# EAGLE library part MCP4361 (library HomeMade)
Quad Resistor Network • Potentiometer configuration • 8-bit: 256 Resistors (257 Taps) • RAB Resistances 5kΩ
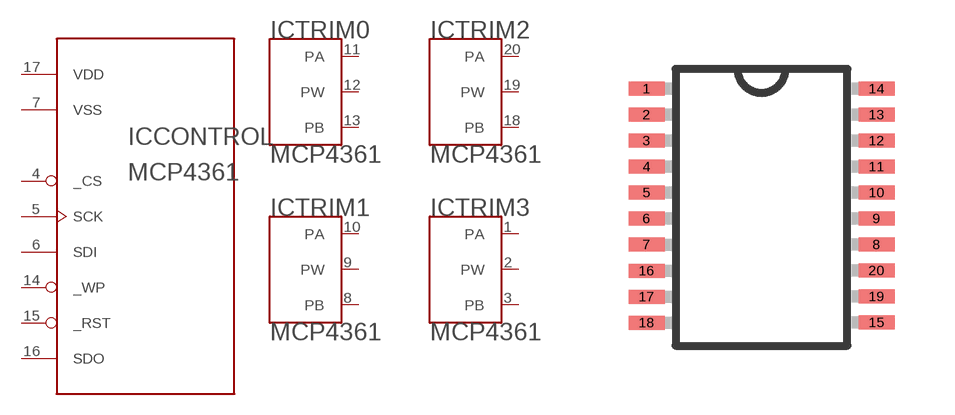
[diagram p9: symbol with the pads of TSSOP20; footprint TSSOP20]

Designator prefix IC; gates CONTROL=MCP4361_DIGITAL TRIM0=MCP4361_POT TRIM1=MCP4361_POT TRIM2=MCP4361_POT TRIM3=MCP4361_POT

## MCP4361  [TSSOP20]
1  TRIM3:PA  pas
2  TRIM3:PW  pas
3  TRIM3:PB  pas
4  CONTROL:_CS  in
5  CONTROL:SCK  in
6  CONTROL:SDI  in
7  CONTROL:VSS  pwr
8  TRIM1:PB  pas
9  TRIM1:PW  pas
10  TRIM1:PA  pas
11  TRIM0:PA  pas
12  TRIM0:PW  pas
13  TRIM0:PB  pas
14  CONTROL:_WP  in
15  CONTROL:_RST  in
16  CONTROL:SDO  out
17  CONTROL:VDD  pwr
18  TRIM2:PB  pas
19  TRIM2:PW  pas
20  TRIM2:PA  pas

## Footprint TSSOP20 (pad centres in mm)
20-Lead Thin Shrink Small Outline Package [TSSOP]
smd 0.9 x 0.35: 1 -2.875,1.95; 2 -2.875,1.3; 3 -2.875,0.65; 4 -2.875,0; 5 -2.875,-0.65; 6 -2.875,-1.3; 7 -2.875,-1.95; 8 2.875,-1.95; 9 2.875,-1.3; 10 2.875,-0.65; 11 2.875,0; 12 2.875,0.65; 13 2.875,1.3; 14 2.875,1.95; 15 2.875,-3.9; 16 -2.875,-2.606; 17 -2.875,-3.256; 18 -2.875,-3.906; 19 2.875,-3.25; 20 2.875,-2.6